# Altium footprint library DIP14.PcbLib: 1 footprints
Each footprint in its own frame and in the unit in brackets; x right, y up, seen from the top. Pads: shape width x height; smd on the part's side, far side on the other; paste and mask are expansions set on the pad; w line width, h text height; cw(c..) or ccw(c..) is an arc to the next point about the centre after c.
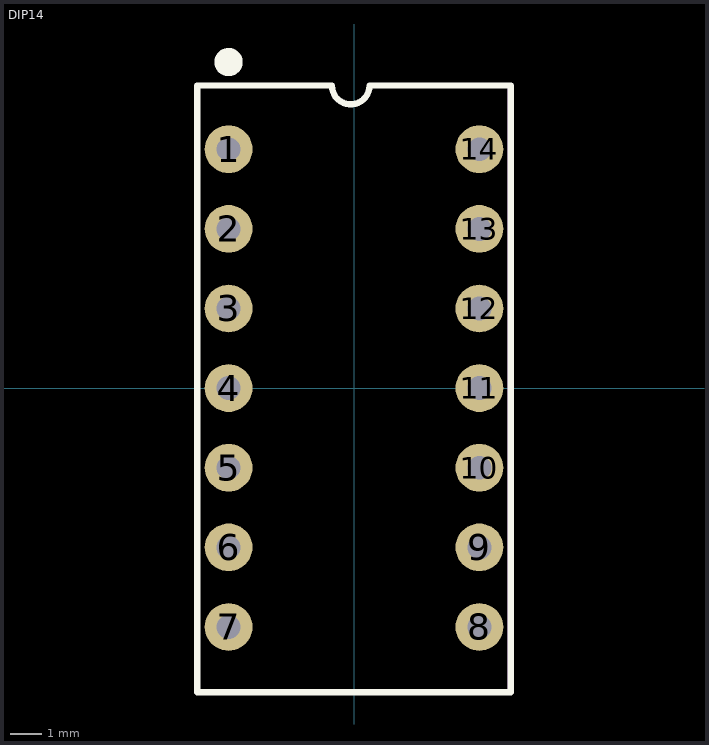
[diagram p0: the footprint, top view; thin cyan lines are the x and y axes]

## DIP14 [mil]
pads (14):
  round 60 hole 30: 1(-157.48,300) 2(-157.48,200) 3(-157.48,100) 4(-157.48,0) 5(-157.48,-100) 6(-157.48,-200) 7(-157.48,-300) 8(157.48,-300) 9(157.48,-200) 10(157.48,-100) 11(157.48,0) 12(157.48,100) 13(157.48,200) 14(157.48,300)
Top Overlay:
  circle w19.68: c-157.48,409.45 r7.87
  lines w7.87: -196.85,-381.89 -196.85,379.92 -27.76,379.92 ccw(c-4.13,379.92) 19.49,379.92 196.85,379.92 196.85,-381.89 -196.85,-381.89
Top Assembly:
  lines w3.94: -196.85,-381.89 -58.07,-381.89 194.88,-381.89 194.88,379.92 19.69,379.92 cw(c-3.94,379.92) -27.56,379.92 -196.85,379.92 -196.85,-381.89
  text "'.Designator'" at -36.42,-13.78 h27.56
3D body "CircuitWorks-DIP-14.STEP": height 157.87, standoff -116.93, extent -157.48,-375 157.48,375